# EAGLE library part AD7291 (library CougsInSpace-IC-Conversion)
AD7291 12b ADC with 8-single ended channels. I²C interface
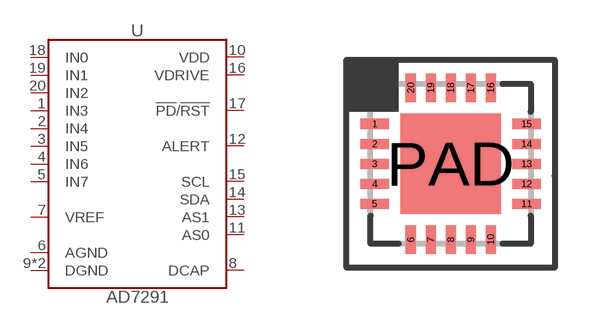
[diagram p2: symbol with the pads of QFN-20-4040; footprint QFN-20-4040]

Designator prefix U

## AD7291 (SKU: 27-0003; VALUE: AD7291)  [QFN-20-4040]
1  IN3  in
2  IN4  in
3  IN5  in
4  IN6  in
5  IN7  in
6  AGND  pwr
7  VREF
8  DCAP  pas
9  DGND  pwr
10  VDD  pwr
11  AS0  pas
12  ALERT  out
13  AS1  pas
14  SDA
15  SCL  in
16  VDRIVE  pwr
17  !PD!/!RST  in
18  IN0  in
19  IN1  in
20  IN2  in
PAD  DGND  pwr

## Footprint QFN-20-4040 (pad centres in mm)
Quad Flat No-Leads (QFN) - 20 pins - 4.0 x 4.0 mm
smd 0.7 x 0.25: 1 -1.9,1; 2 -1.9,0.5; 3 -1.9,0; 4 -1.9,-0.5; 5 -1.9,-1; 11 1.9,-1; 12 1.9,-0.5; 13 1.9,0; 14 1.9,0.5; 15 1.9,1
smd 0.25 x 0.7: 6 -1,-1.9; 7 -0.5,-1.9; 8 0,-1.9; 9 0.5,-1.9; 10 1,-1.9; 16 1,1.9; 17 0.5,1.9; 18 0,1.9; 19 -0.5,1.9; 20 -1,1.9
smd 2.5 x 2.5: PAD 0,0